# Altium schematic symbol library SD_Card.SchLib: 1 symbol
Pins are listed as number, name and electrical type; pins without a type are passive.

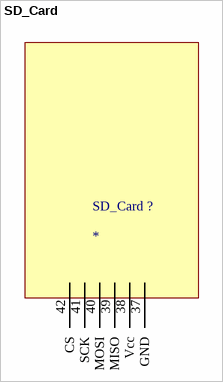
[diagram p0: symbol SD_Card]

## SD_Card
designator SD_Card ?
footprint SD_Card
pins: 37 GND, 38 Vcc, 39 MISO, 40 MOSI, 41 SCK, 42 CS